# EAGLE library part MAX6675 (library IC & Transistor)
SMD K Thermocouple Amp MAX6675
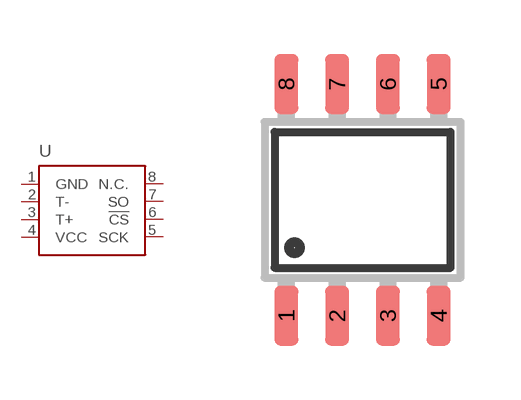
[diagram p51: symbol with the pads of SOIC-08N; footprint SOIC-08N]

Designator prefix -

## MAX6675_(SOIC-08N) (CYTRON-PC: S-IC-MAX6675-SO8; DESC: S K Thermocouple Amp MAX6675 SO8; MF: MAXIM; MPN: MAX6675ISA)  [SOIC-08N]
1  GND  pwr
2  T-
3  T+
4  VCC  pwr
5  SCK
6  !CS
7  SO
8  N.C.  nc

## Footprint SOIC-08N (pad centres in mm)
Small Outline Integrated Circuit (SOIC) Narrow (JEDEC) SOIC Package Size: 4.9mm x 3.9mm Lead Pitch: 1.27mm
smd 0.6 x 1.5: 1 -1.905,-2.9; 2 -0.635,-2.9; 3 0.635,-2.9; 4 1.905,-2.9; 5 1.905,2.9; 6 0.635,2.9; 7 -0.635,2.9; 8 -1.905,2.9